# Altium footprint library minicircuits.PCBLIB: 2 footprints
Each footprint in its own frame and in the unit in brackets; x right, y up, seen from the top. Pads: shape width x height; smd on the part's side, far side on the other; paste and mask are expansions set on the pad; w line width, h text height; cw(c..) or ccw(c..) is an arc to the next point about the centre after c.
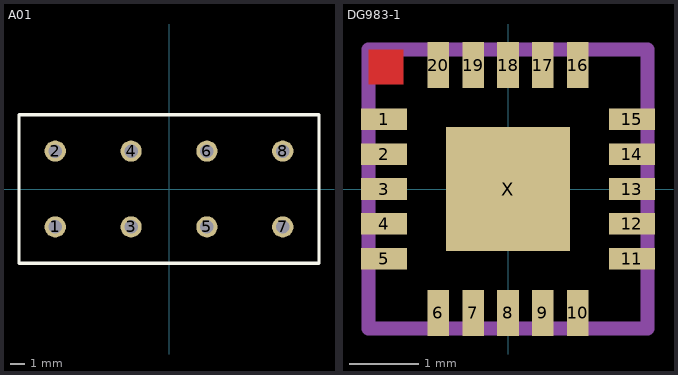
[diagram p0: the footprints below, top view; thin cyan lines are the x and y axes]

## A01 [mil]
pads (8):
  round 56 hole 35.43: 1(-300,-100) 2(-300,100) 3(-100,-100) 4(-100,100) 5(100,-100) 6(100,100) 7(300,-100) 8(300,100)
Top Overlay:
  lines w8: -395.67,-195.87 395.67,-195.87 395.67,195.87 -395.67,195.87 -395.67,-195.87

## DG983-1 [mm]
pads (21):
  rect 0.66x0.31 smd: 1(-1.775,1) 2(-1.775,0.5) 3(-1.775,0) 4(-1.775,-0.5) 5(-1.775,-1) 11(1.775,-1) 12(1.775,-0.5) 13(1.775,0) 14(1.775,0.5) 15(1.775,1)
  rect 0.31x0.66 smd: 6(-1,-1.775) 7(-0.5,-1.775) 8(0,-1.775) 9(0.5,-1.775) 10(1,-1.775) 16(1,1.775) 17(0.5,1.775) 18(0,1.775) 19(-0.5,1.775) 20(-1,1.775)
  rect 1.78x1.78 smd: X(0,0)
Top Layer:
  rectangle: -2,1.5 -1.5,2
Top Solder:
  rectangle: -2.15,0.8 -1.4,1.2
  rectangle: -2.15,0.3 -1.4,0.7
  rectangle: -2.15,-0.2 -1.4,0.2
  rectangle: -2.15,-0.7 -1.4,-0.3
  rectangle: -2.15,-1.2 -1.4,-0.8
  region: -0.8,-2.15 -0.8,-1.4 -1.2,-1.4 -1.2,-2.15
  region: -0.3,-2.15 -0.3,-1.4 -0.7,-1.4 -0.7,-2.15
  region: 0.2,-2.15 0.2,-1.4 -0.2,-1.4 -0.2,-2.15
  region: 0.7,-2.15 0.7,-1.4 0.3,-1.4 0.3,-2.15
  region: 1.2,-2.15 1.2,-1.4 0.8,-1.4 0.8,-2.15
  region: 2.15,-0.8 1.4,-0.8 1.4,-1.2 2.15,-1.2
  region: 2.15,-0.3 1.4,-0.3 1.4,-0.7 2.15,-0.7
  region: 2.15,0.2 1.4,0.2 1.4,-0.2 2.15,-0.2
  region: 2.15,0.7 1.4,0.7 1.4,0.3 2.15,0.3
  region: 2.15,1.2 1.4,1.2 1.4,0.8 2.15,0.8
  region: 0.8,2.15 0.8,1.4 1.2,1.4 1.2,2.15
  region: 0.3,2.15 0.3,1.4 0.7,1.4 0.7,2.15
  region: -0.2,2.15 -0.2,1.4 0.2,1.4 0.2,2.15
  region: -0.7,2.15 -0.7,1.4 -0.3,1.4 -0.3,2.15
  region: -1.2,2.15 -1.2,1.4 -0.8,1.4 -0.8,2.15
  rectangle: -0.95,-0.95 0.95,0.95
Mechanical 16:
  lines w0.203: -2,-2 2,-2 2,2 -2,2 -2,-2